# Altium integrated library CRGP2512F47R.IntLib: 1 symbol
Pins are listed as number, name and electrical type; pins without a type are passive.

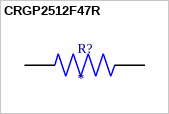
[diagram p0: symbol CRGP2512F47R]

## CRGP2512F47R
designator R?
Fixed Resistor CRGP 2512 47R 1%; MP: CRGP2512F47R; Package: None; Price: None; Value: *; Availability: Unavailable
footprint RESC6332X65N
pins: 1, 2